# Altium schematic symbol library FEISIKAER--DIANCI_1.SCHLIB: 18 symbols
Pins are listed as number, name and electrical type; pins without a type are passive.

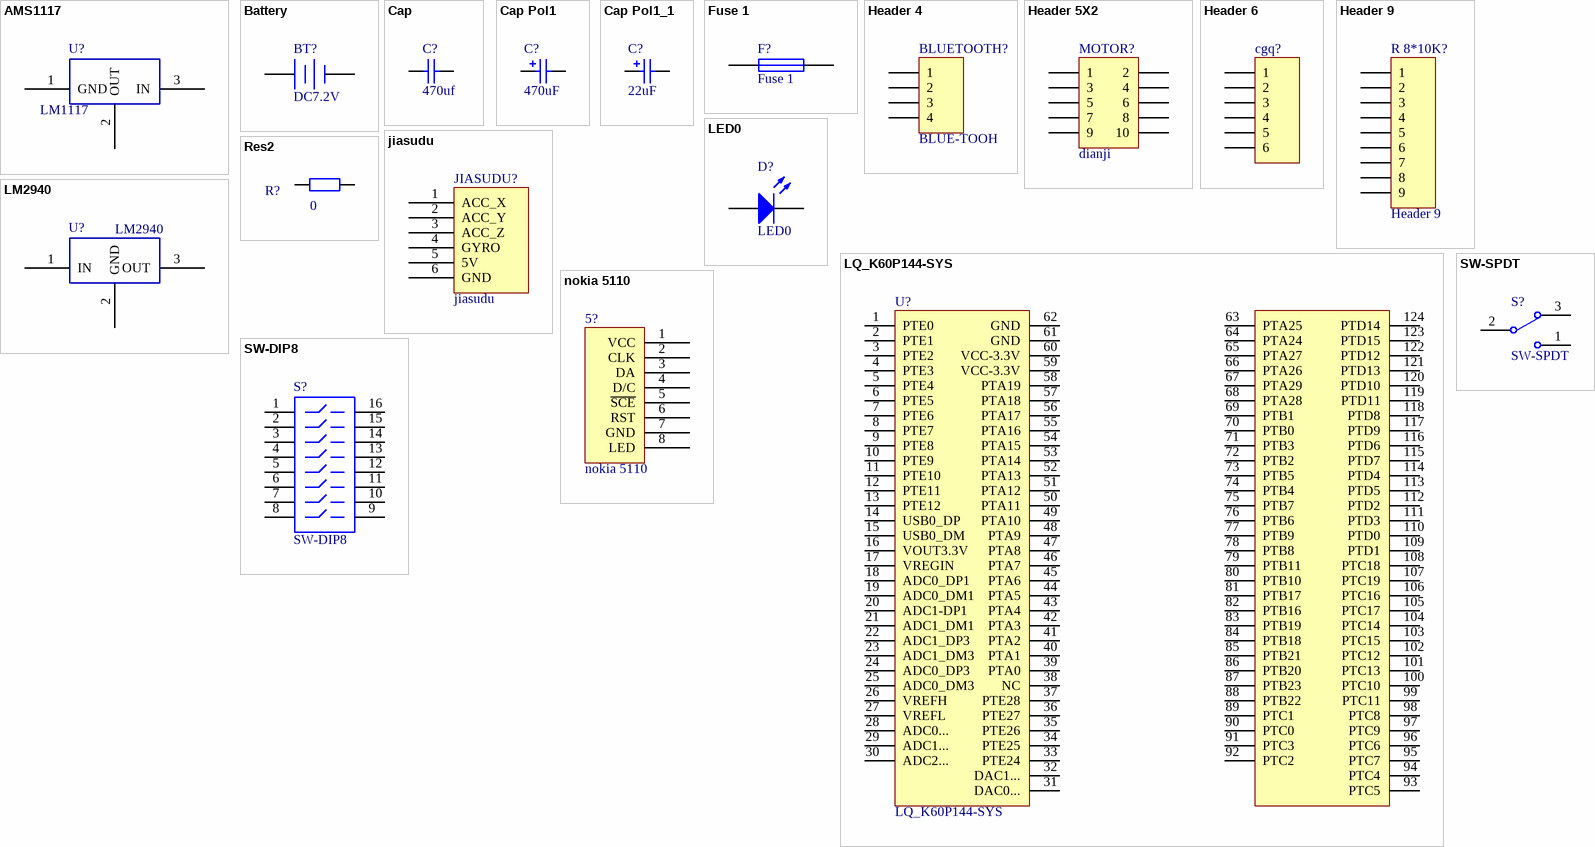
[diagram p0: symbols AMS1117 to SW-SPDT]

## AMS1117
designator U?, comment LM1117
footprint D2PAK (D2-PAK/TO-263-AB; 3 Leads (1 Cropped); Body 15.5 (inc. leads) x 10.5 mm (LxW max))
pins: 1 GND, 2 OUT, 3 IN

## Battery
designator BT?, comment DC7.2V
Multicell Battery; Published: 24-Mar-1999; LatestRevisionDate: 17-Jul-2002; LatestRevisionNote: Re-released for DXP Platform.; PackageReference: BAT-2; Publisher: Altium Limited
footprint BAT-2 (Multicell Battery; 2 Leads)
footprint 接口2
pins: 1 +, 2 -

## Cap
designator C?  value 470uf  (hidden comment: Cap)
Capacitor; Published: 8-Jun-2000; LatestRevisionDate: 17-Jul-2002; LatestRevisionNote: Re-released for DXP Platform.; PackageReference: RAD-0.3; Publisher: Altium Limited
footprint RAD-0.3 (Capacitor; 2 Leads)
footprint VP32-3.2 (Capacitor, Ceramic, Thru-Hole, Dipped Radial; Body 5.1 x 3.2 mm (WxT) Pin Spacing 2.54 mm (typ))
footprint VP45-3.2 (Capacitor, Ceramic, Thru-Hole, Dipped Radial; Body 7.8 x 3.2 mm (WxT) Pin Spacing 5.08 mm (typ))
simulation model CAP (Capacitor)
signal-integrity model Cap
footprint 2PT
pins: 1, 2

## Cap Pol1
designator C?  value 470uF  (hidden comment: Cap Pol1)
Polarized Capacitor (Radial); Published: 8-Jun-2000; LatestRevisionDate: 17-Jul-2002; LatestRevisionNote: Re-released for DXP Platform.; PackageReference: RB7.6-15; Publisher: Altium Limited
footprint RB7.6-15 (Polarized Capacitor (Radial); 2 Leads)
footprint HA-C1 (Capacitor, Radial, Tantalum; Body 1.7 x 2.8 mm (Dia.xH max); Pin Spacing 1.27 mm (typ))
footprint A (Capacitor, Electrolytic, Radial; Body 4 x 5 mm (Dia.xH typ); Pin Spacing 1.5 mm (typ))
footprint B (Capacitor, Electrolytic, Radial; Body 5 x 6.8 mm (Dia.xH typ); Pin Spacing 2 mm (typ))
footprint CAPPR5-5x5 (Capacitor, Electrolytic, Radial; Body 5 x 5 mm (Dia.xH typ); Pin Spacing 5 mm (typ))
footprint CAPPR7.5-16x35 (Capacitor, Electrolytic, Radial; Body 16 x 35 mm (Dia.xH typ); Pin Spacing 7.5 mm (typ))
simulation model CAP (Capacitor)
signal-integrity model Cap Pol
footprint FALSE
pins: 1, 2
1 alternate drawing of the same symbol

## Cap Pol1_1
designator C?, comment value 22uF  (hidden comment: Cap Pol1)
Polarized Capacitor (Radial); Published: 8-Jun-2000; LatestRevisionDate: 17-Jul-2002; LatestRevisionNote: Re-released for DXP Platform.; PackageReference: RB7.6-15; Publisher: Altium Limited
footprint RB7.6-15 (Polarized Capacitor (Radial); 2 Leads)
footprint HA-C1 (Capacitor, Radial, Tantalum; Body 1.7 x 2.8 mm (Dia.xH max); Pin Spacing 1.27 mm (typ))
footprint 2PT
footprint B (Capacitor, Electrolytic, Radial; Body 5 x 6.8 mm (Dia.xH typ); Pin Spacing 2 mm (typ))
footprint CAPPR5-5x5 (Capacitor, Electrolytic, Radial; Body 5 x 5 mm (Dia.xH typ); Pin Spacing 5 mm (typ))
footprint CAPPR7.5-16x35 (Capacitor, Electrolytic, Radial; Body 16 x 35 mm (Dia.xH typ); Pin Spacing 7.5 mm (typ))
simulation model CAP (Capacitor)
signal-integrity model Cap Pol
pins: 1, 2
1 alternate drawing of the same symbol

## Fuse 1
designator F?
Fuse; Published: 8-Jun-2000; LatestRevisionDate: 17-Jul-2002; LatestRevisionNote: Re-released for DXP Platform.; PackageReference: PIN-W2/E2.8; Publisher: Altium Limited
footprint PIN-W2/E2.8 (Fuse; 2 Leads)
simulation model FUSE (Spice Subcircuit)
footprint FALSE
pins: 1, 2

## Header 4
designator BLUETOOTH?, comment BLUE-TOOH
Header, 4-Pin; LatestRevisionDate: 17-Jul-2002; LatestRevisionNote: Re-released for DXP Platform.; Publisher: Altium Limited
footprint HDR1X4 (Connector; Header; 4 Position)
signal-integrity model Connector
pins: 1, 2, 3, 4

## Header 5X2
designator MOTOR?, comment dianji
Header, 5-Pin, Dual row; LatestRevisionDate: 17-Jul-2002; LatestRevisionNote: Re-released for DXP Platform.; Publisher: Altium Limited
footprint HDR2X5 (Connector; Header; 5x2 Position)
signal-integrity model Connector
pins: 1, 2, 3, 4, 5, 6, 7, 8, 9, 10

## Header 6
designator cgq?  (value not drawn)
Header, 6-Pin; LatestRevisionDate: 17-Jul-2002; LatestRevisionNote: Re-released for DXP Platform.; Publisher: Altium Limited
footprint HDR1X6 (Connector; Header; 6 Position)
signal-integrity model Connector
pins: 1, 2, 3, 4, 5, 6

## Header 9
designator R 8*10K?
Header, 9-Pin; LatestRevisionDate: 17-Jul-2002; LatestRevisionNote: Re-released for DXP Platform.; Publisher: Altium Limited
footprint HDR1X9 (Connector; Header; 9 Position)
signal-integrity model Connector
pins: 1, 2, 3, 4, 5, 6, 7, 8, 9

## jiasudu
designator JIASUDU?
footprint jiasudu
footprint jiasudu
pins: 1 ACC_X, 2 ACC_Y, 3 ACC_Z, 4 GYRO, 5 5V, 6 GND

## LED0
designator D?
Typical INFRARED GaAs LED; Published: 8-Jun-2000; LatestRevisionDate: 08-Jul-2005; LatestRevisionNote: Mech Layer 1 removed.; PackageReference: LED-0; Publisher: Altium Limited
footprint LED-0 (Typical INFRARED GaAs LED; 2 Leads)
simulation model LED0 (Diode)
footprint M0805
pins: 1 A, 2 K

## LM2940
designator U?
footprint LM2940
pins: 1 IN, 2 GND, 3 OUT

## LQ_K60P144-SYS
designator U?
footprint k60
pins: 1 PTE0, 2 PTE1, 3 PTE2, 4 PTE3, 5 PTE4, 6 PTE5, 7 PTE6, 8 PTE7, 9 PTE8, 10 PTE9, 11 PTE10, 12 PTE11, 13 PTE12, 14 USB0_DP, 15 USB0_DM, 16 VOUT3.3V, 17 VREGIN, 18 ADC0_DP1, 19 ADC0_DM1, 20 ADC1-DP1, 21 ADC1_DM1, 22 ADC1_DP3, 23 ADC1_DM3, 24 ADC0_DP3, 25 ADC0_DM3, 26 VREFH, 27 VREFL, 28 ADC0..., 29 ADC1..., 30 ADC2..., 31 DAC0..., 32 DAC1..., 33 PTE24, 34 PTE25, 35 PTE26, 36 PTE27, 37 PTE28, 38 NC, 39 PTA0, 40 PTA1, 41 PTA2, 42 PTA3, 43 PTA4, 44 PTA5, 45 PTA6, 46 PTA7, 47 PTA8, 48 PTA9, 49 PTA10, 50 PTA11, 51 PTA12, 52 PTA13, 53 PTA14, 54 PTA15, 55 PTA16, 56 PTA17, 57 PTA18, 58 PTA19, 59 VCC-3.3V, 60 VCC-3.3V, 61 GND, 62 GND, 63 PTA25, 64 PTA24, 65 PTA27, 66 PTA26, 67 PTA29, 68 PTA28, 69 PTB1, 70 PTB0, 71 PTB3, 72 PTB2, 73 PTB5, 74 PTB4, 75 PTB7, 76 PTB6, 77 PTB9, 78 PTB8, 79 PTB11, 80 PTB10, 81 PTB17, 82 PTB16, 83 PTB19, 84 PTB18, 85 PTB21, 86 PTB20, 87 PTB23, 88 PTB22, 89 PTC1, 90 PTC0, 91 PTC3, 92 PTC2, 93 PTC5, 94 PTC4, 95 PTC7, 96 PTC6, 97 PTC9, 98 PTC8, 99 PTC11, 100 PTC10, 101 PTC13, 102 PTC12, 103 PTC15, 104 PTC14, 105 PTC17, 106 PTC16, 107 PTC19, 108 PTC18, 109 PTD1, 110 PTD0, 111 PTD3, 112 PTD2, 113 PTD5, 114 PTD4, 115 PTD7, 116 PTD6, 117 PTD9, 118 PTD8, 119 PTD11, 120 PTD10, 121 PTD13, 122 PTD12, 123 PTD15, 124 PTD14

## nokia 5110
designator 5?
footprint 5110
pins: 1 VCC, 2 CLK, 3 DA, 4 D/C, 5 ~{SCE}, 6 RST, 7 GND, 8 LED

## Res2
designator R?  value 0  (hidden comment: Res2)
Resistor; Published: 8-Jun-2000; LatestRevisionDate: 17-Jul-2002; LatestRevisionNote: Re-released for DXP Platform.; PackageReference: AXIAL-0.4; Publisher: Altium Limited
footprint AXIAL-0.4 (Resistor; 2 Leads)
simulation model RESISTOR (Resistor)
signal-integrity model Res
footprint M0805
pins: 1, 2

## SW-DIP8
designator S?
4009 Series DIP Switch, Raised actuator; Published: 24-Mar-1999; LatestRevisionDate: 17-Dec-2003; LatestRevisionNote: PCB Footprint replaced.; PackageReference: DIP-16-KEY; Publisher: Altium Limited; ComponentLink1Description: Manufacturer Link; ComponentLink1URL: http://www.oupiin.com/prodindx.html#Headers
footprint DIP-16-KEY (DIP; 16 Leads; Row Spacing 7.62 mm; Pitch 2.54 mm)
simulation model dpsw8 (Spice Subcircuit)
pins: 1, 2, 3, 4, 5, 6, 7, 8, 9, 10, 11, 12, 13, 14, 15, 16

## SW-SPDT
designator S?
SPDT Subminiature Toggle Switch, Right Angle Mounting, Vertical Actuation; Published: 24-Mar-1999; LatestRevisionDate: 17-Dec-2003; LatestRevisionNote: Schematic revised, PCB Footprint replaced.; DatasheetDocument: 05-Dec-2000; PackageReference: TL36WW15050; Publisher: Altium Limited; ComponentLink1Description: Manufacturer Link; ComponentLink1URL: http://www.apem.com
footprint TL36WW15050 (SPDT Subminiature Toggle Switch, Right Angle Mounting, Vertical Actuation)
footprint KEY_2
pins: 1, 2, 3